# Altium footprint library Adafruit PyGamer.PCBLIB: 205 footprints (part 3 of 13)
Each footprint in its own frame and in the unit in brackets; x right, y up, seen from the top. Pads: shape width x height; smd on the part's side, far side on the other; paste and mask are expansions set on the pad; w line width, h text height; cw(c..) or ccw(c..) is an arc to the next point about the centre after c.
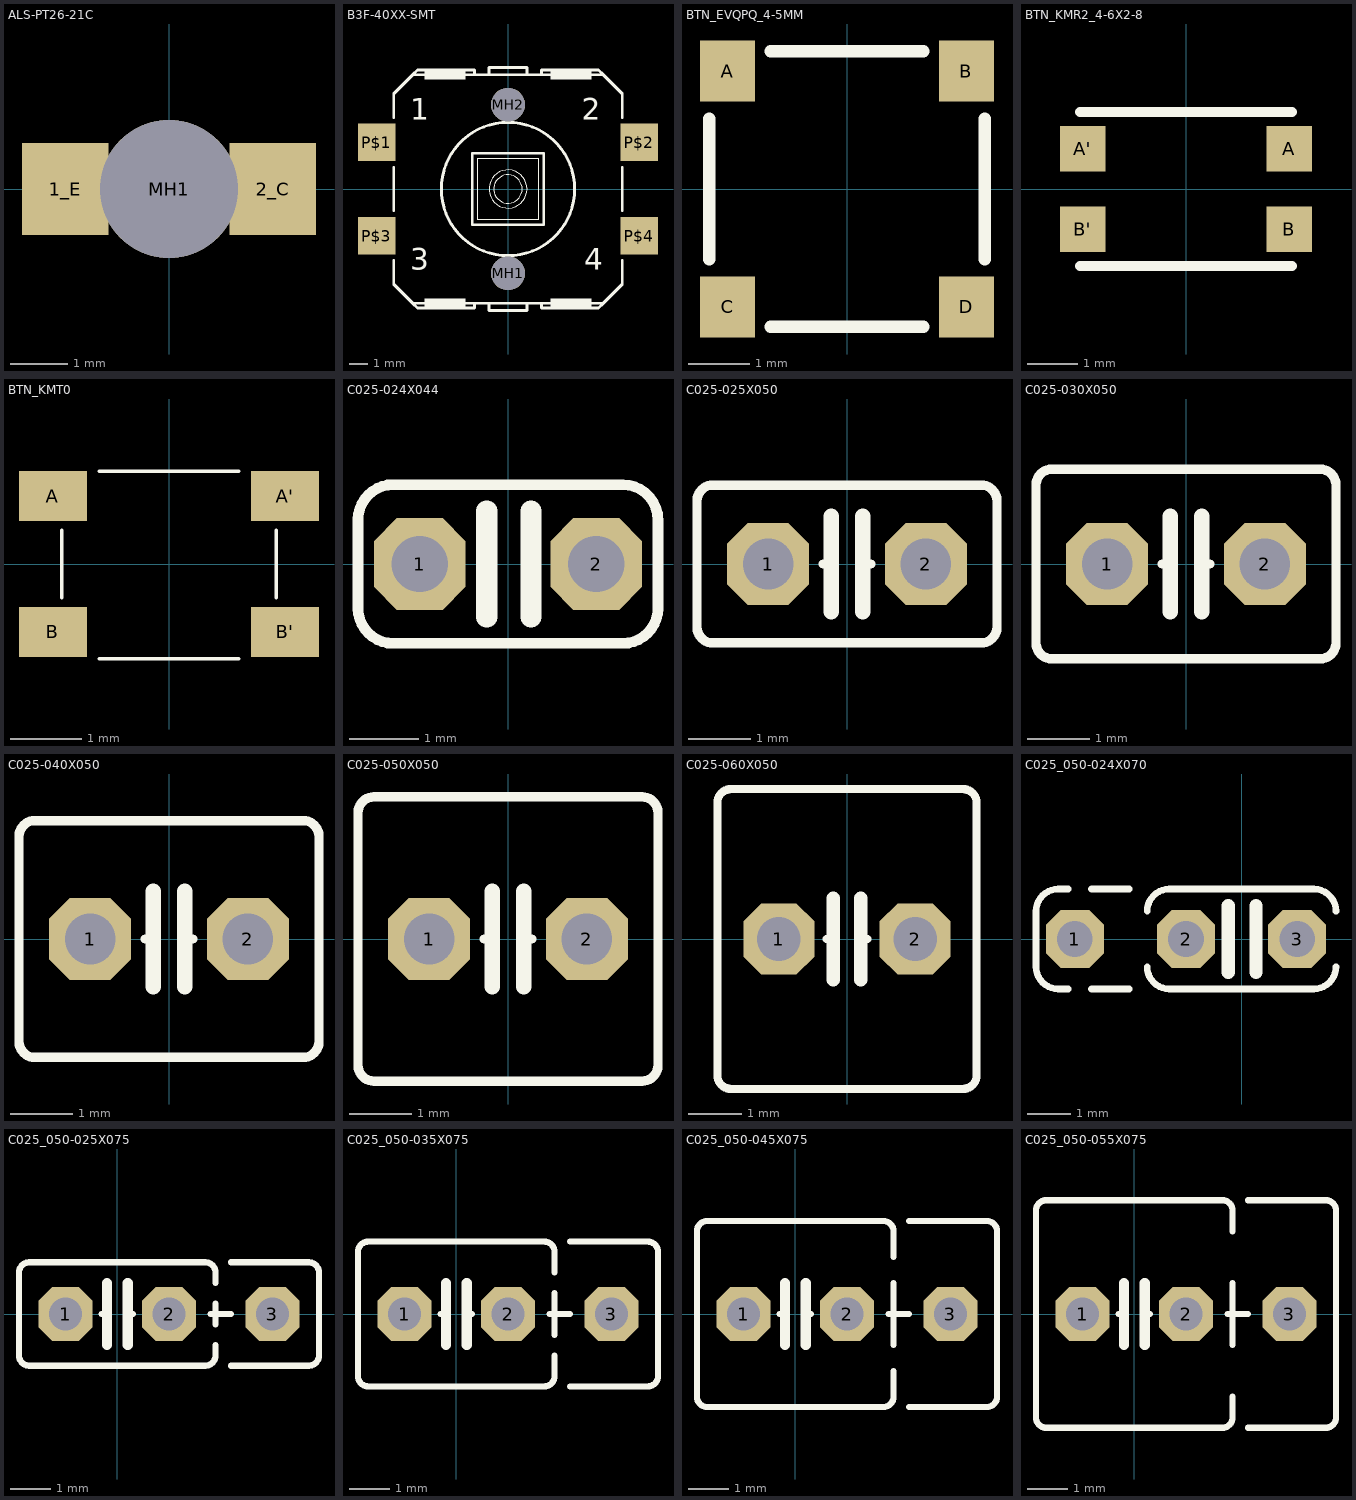
[diagram p2: the footprints below, top view; thin cyan lines are the x and y axes]

## ALS-PT26-21C [mil]
pads (3):
  rect 59.06x62.99 smd paste+0: 1_E(-70.87,0) 2_C(70.87,0)
  round 94.49 hole 94.49 unplated: MH1(0,0)
Bottom Overlay:
  text "E" at -90.55,-19.69 h62
  text "C" at 55.12,-15.75 h62

## B3F-40XX-SMT [mm]
pads (6):
  round 1.803 hole 1.803 unplated: MH1(0,-4.496) MH2(0,4.496)
  rect 2x2 smd: P$1(-7,2.5) P$2(7,2.5) P$3(-7,-2.5) P$4(7,-2.5)
Top Overlay:
  circle w0.152: c0,0 r3.556
  circle w0.051: c0,0 r1.016
  circle w0.051: c0,0 r0.762
  region: 2.286,5.842 2.286,6.35 4.445,6.35 4.445,5.842
  region: -4.445,5.842 -4.445,6.35 -2.286,6.35 -2.286,5.842
  region: 2.286,-6.35 2.286,-5.842 4.445,-5.842 4.445,-6.35
  region: -4.445,-6.35 -4.445,-5.842 -2.286,-5.842 -2.286,-6.35
  lines w0.051: -1.651,-1.651 1.651,-1.651 1.651,1.651 -1.651,1.651 -1.651,-1.651
  lines w0.152: -6.096,-3.81 -6.096,-5.08 -5.08,-6.096 ; -6.096,-1.143 -6.096,1.143 ; -6.096,3.81 -6.096,5.08 -5.08,6.096 ; 6.096,-3.81 6.096,-5.08 5.08,-6.096 ; 6.096,-1.143 6.096,1.143 ; 6.096,3.81 6.096,5.08 5.08,6.096 ; -5.08,-6.096 -1.778,-6.096 ; -5.08,-6.096 -4.826,-6.35 -1.778,-6.35 -1.778,-6.096 ; -5.08,6.096 -1.778,6.096 ; -5.08,6.096 -4.826,6.35 -1.778,6.35 -1.778,6.096 ; -1.778,-6.096 -1.016,-6.096 ; -1.778,6.096 -1.016,6.096 ; -1.016,-6.096 -1.016,-6.477 1.016,-6.477 1.016,-6.096 ; -1.016,-6.096 1.016,-6.096 ; -1.016,6.096 -1.016,6.477 1.016,6.477 1.016,6.096 ; -1.016,6.096 1.016,6.096 ; 1.016,-6.096 1.778,-6.096 ; 1.016,6.096 1.778,6.096 ; 1.778,-6.096 1.778,-6.35 4.826,-6.35 5.08,-6.096 ; 1.778,-6.096 5.08,-6.096 ; 1.778,6.096 5.08,6.096 ; 1.778,6.096 1.778,6.35 4.826,6.35 5.08,6.096 ; -1.905,-1.905 1.905,-1.905 1.905,1.905 -1.905,1.905 -1.905,-1.905
  text "1" at -5.207,3.302 h1.97
  text "2" at 3.937,3.302 h1.97
  text "3" at -5.207,-4.699 h1.97
  text "4" at 4.064,-4.699 h1.97
Bottom Overlay:
  circle w0.152: c-4.572,2.54 r0.127
  circle w0.152: c-4.572,-2.54 r0.127
  region: 6.096,-2.921 6.096,-2.032 6.604,-2.032 6.604,-2.921
  region: 6.096,2.032 6.096,2.921 6.604,2.921 6.604,2.032
  region: -6.604,2.032 -6.604,2.921 -6.096,2.921 -6.096,2.032
  region: -6.604,-2.921 -6.604,-2.032 -6.096,-2.032 -6.096,-2.921
  lines w0.152: -6.096,-3.81 -6.096,-1.143 ; -6.096,1.143 -6.096,3.81 ; -5.08,-2.54 -4.572,-2.54 ; -5.08,-0.762 -4.572,0.762 -4.572,2.54 ; -5.08,2.54 -4.572,2.54 ; -4.572,-0.762 -4.572,-2.54 ; -2.921,-2.54 -4.572,-2.54 ; -2.921,2.54 -4.572,2.54 ; 2.921,-2.54 5.08,-2.54 ; 2.921,2.54 5.08,2.54 ; 6.096,-3.81 6.096,-1.143 ; 6.096,1.143 6.096,3.81

## BTN_EVQPQ_4-5MM [mm]
pads (4):
  rect 0.9x1 smd: A(-1.95,1.925) B(1.95,1.925) C(-1.95,-1.925) D(1.95,-1.925)
Top Overlay:
  lines w0.203: -2.25,-1.15 -2.25,1.15 ; -1.25,-2.25 1.25,-2.25 ; -1.25,2.25 1.25,2.25 ; 2.25,-1.15 2.25,1.15
Bottom Overlay:
  circle w0.203: c0,0 r2.15
  lines w0.127: -2.25,-2.25 2.25,-2.25 2.25,2.25 -2.25,2.25 -2.25,-2.25

## BTN_KMR2_4-6X2-8 [mil]
pads (4):
  rect 35.43x35.43 smd: A(80.71,31.5) A'(-80.71,31.5) B(80.71,-31.5) B'(-80.71,-31.5)
Top Overlay:
  lines w8: -82.68,-60.06 82.68,-60.06 ; -82.68,60.06 82.68,60.06
Bottom Overlay:
  lines w5: -15.75,-15.75 0,-15.75 ; -15.75,15.75 0,15.75 ; 0,-11.81 0,-15.75 ; 11.81,-3.94 0,7.87 0,15.75 ; 15.75,-15.75 0,-15.75 ; 15.75,15.75 0,15.75
  lines w8: -82.68,-55.12 82.68,-55.12 82.68,55.12 -82.68,55.12 -82.68,-55.12 ; -41.34,-31.5 cw(c34.71,0) -41.34,31.5 41.34,31.5 cw(c-34.71,0) 41.34,-31.5 -41.34,-31.5

## BTN_KMT0 [mil]
pads (4):
  rect 37.4x27.56 smd: A(-63.98,37.4) A'(63.98,37.4) B(-63.98,-37.4) B'(63.98,-37.4)
Top Overlay:
  lines w1.97: -59.06,-18.7 -59.06,18.7 ; -38.39,-52.17 38.39,-52.17 ; -38.39,51.18 38.39,51.18 ; 59.06,-18.7 59.06,18.7
Bottom Overlay:
  circle w1.97: c0,0 r15.41
  circle w1.97: c0,0 r41.49
  lines w1.97: -54.13,-48.23 ccw(c-50.2,-48.23) -50.2,-52.17 -44.29,-52.17 ; -54.13,47.24 cw(c-50.2,47.24) -50.2,51.18 -45.28,51.18 ; -49.21,-48.23 -53.15,-48.23 ; -63.98,-48.23 -53.15,-48.23 ; -63.98,-48.23 -67.91,-48.23 -67.91,-28.54 -63.98,-28.54 ; -63.98,-48.23 -63.98,-28.54 ; -63.98,-28.54 -59.06,-28.54 ; -62.99,27.56 -59.06,27.56 ; -62.99,27.56 -66.93,27.56 -66.93,47.24 -62.99,47.24 ; -62.99,27.56 -62.99,47.24 ; -62.99,47.24 -53.15,47.24 -53.15,27.56 ; -59.06,-28.54 -53.15,-28.54 ; -59.06,-28.54 -59.06,-19.69 ; -59.06,-19.69 -59.06,-9.84 ; -59.06,-19.69 ccw(c-56.1,-19.68) -56.1,-22.64 ; -59.06,-9.84 -59.06,5.91 ; -59.06,-9.84 -61.02,-9.84 -61.02,5.91 -59.06,5.91 ; -59.06,5.91 -59.06,18.7 ; -59.06,18.7 cw(c-56.1,18.7) -56.1,21.65 ; -59.06,18.7 -59.06,27.56 ; -59.06,27.56 -53.15,27.56 ; -56.1,-22.64 -55.12,-22.64 cw(c-55.12,-28.55) -49.21,-28.54 -49.21,-47.24 ccw(c-44.28,-47.24) -44.29,-52.17 ; -56.1,-22.64 cw(c-56.1,-25.59) -53.15,-25.59 -53.15,-28.54 ; -56.1,21.65 -55.12,21.65 ccw(c-55.12,27.56) -49.21,27.56 -49.21,47.24 cw(c-45.27,47.24) -45.28,51.18 ; -56.1,21.65 ccw(c-56.1,24.61) -53.15,24.61 -53.15,27.56 ; -53.15,-48.23 -53.15,-28.54 ; -45.28,51.18 45.28,51.18 ; -44.29,-52.17 44.29,-52.17 ; 44.29,-52.17 ccw(c44.28,-47.24) 49.21,-47.24 49.21,-27.56 cw(c54.13,-27.56) 54.13,-22.64 56.1,-22.64 ; 44.29,-52.17 50.2,-52.17 ccw(c50.2,-48.23) 54.13,-48.23 ; 45.28,51.18 cw(c45.27,47.24) 49.21,47.24 49.21,25.59 ccw(c53.15,25.59) 53.15,21.65 55.12,21.65 ; 45.28,51.18 49.21,51.18 cw(c49.21,46.26) 54.13,46.26 ; 52.17,-28.54 52.17,-26.57 cw(c56.1,-26.57) 56.1,-22.64 ; 52.17,-28.54 59.06,-28.54 ; 52.17,-28.54 52.17,-48.23 54.13,-48.23 ; 52.17,26.57 52.17,46.26 54.13,46.26 ; 52.17,26.57 52.17,24.61 ccw(c55.12,24.61) 55.12,21.65 ; 52.17,26.57 59.06,26.57 ; 54.13,-48.23 62.99,-48.23 ; 54.13,46.26 63.98,46.26 ; 55.12,21.65 56.1,21.65 ; 56.1,-22.64 ccw(c56.1,-19.68) 59.06,-19.69 ; 56.1,21.65 cw(c56.1,18.7) 59.06,18.7 ; 56.1,21.65 cw(c56.1,18.7) 59.06,18.7 ; 59.06,-28.54 62.99,-28.54 ; 59.06,-28.54 59.06,-19.69 ; 59.06,-19.69 59.06,-10.83 ; 59.06,-10.83 59.06,4.92 ; 59.06,-10.83 61.02,-10.83 61.02,4.92 59.06,4.92 ; 59.06,4.92 59.06,18.7 ; 59.06,18.7 59.06,26.57 ; 59.06,26.57 63.98,26.57 ; 62.99,-48.23 66.93,-48.23 66.93,-28.54 62.99,-28.54 ; 62.99,-48.23 62.99,-28.54 ; 63.98,26.57 67.91,26.57 67.91,46.26 63.98,46.26 ; 63.98,26.57 63.98,46.26 ; -57.09,-18.7 ccw(c-54.13,-18.7) -54.13,-21.65 -53.15,-21.65 cw(c-53.15,-28.54) -46.26,-28.54 -46.26,-43.31 ccw(c-40.35,-43.3) -40.35,-49.21 41.34,-49.21 ccw(c41.34,-44.29) 46.26,-44.29 46.26,-27.56 cw(c51.18,-27.56) 51.18,-22.64 52.17,-22.64 ccw(c52.17,-17.72) 57.09,-17.72 57.09,16.73 ccw(c53.15,16.73) 53.15,20.67 52.17,20.67 cw(c52.16,26.57) 46.26,26.57 46.26,43.31 ccw(c41.34,43.31) 41.34,48.23 -41.34,48.23 ccw(c-41.34,43.31) -46.26,43.31 -46.26,26.57 cw(c-52.16,26.57) -52.17,20.67 -53.15,20.67 ccw(c-53.15,16.73) -57.09,16.73 -57.09,-18.7

## C025-024X044 [mil]
pads (2):
  oct 52x52 / inner round 48.04 / far side oct 52x52 hole 32: 1(-50,0) 2(50,0)
Top Overlay:
  lines w6: -85,-25 -85,25 cw(c-65,25) -65,45 65,45 cw(c65,25) 85,25 85,-25 cw(c65,-25) 65,-45 -65,-45 cw(c-65,-25) -85,-25
  lines w12: -12,-30 -12,30 ; 13,-30 13,30
Bottom Overlay:
  lines w6: -50,0 -12,0 ; 13,0 50,0

## C025-025X050 [mil]
pads (2):
  oct 52x52 / inner round 48.04 / far side oct 52x52 hole 32: 1(-50,0) 2(50,0)
Top Overlay:
  lines w6: -15,0 -10,0 ; 10,0 15,0 ; -95,-40 -95,40 cw(c-85,40) -85,50 85,50 cw(c85,40) 95,40 95,-40 cw(c85,-40) 85,-50 -85,-50 cw(c-85,-40) -95,-40
  lines w10: -10,-30 -10,0 -10,30 ; 10,-30 10,0 10,30
Bottom Overlay:
  lines w6: -30,0 -15,0 ; 15,0 30,0

## C025-030X050 [mil]
pads (2):
  oct 52x52 / inner round 48.04 / far side oct 52x52 hole 32: 1(-50,0) 2(50,0)
Top Overlay:
  lines w6: -15,0 -10,0 ; 10,0 15,0 ; -95,-50 -95,50 cw(c-85,50) -85,60 85,60 cw(c85,50) 95,50 95,-50 cw(c85,-50) 85,-60 -85,-60 cw(c-85,-50) -95,-50
  lines w10: -10,-30 -10,0 -10,30 ; 10,-30 10,0 10,30
Bottom Overlay:
  lines w6: -30,0 -15,0 ; 15,0 30,0

## C025-040X050 [mil]
pads (2):
  oct 52x52 / inner round 48.04 / far side oct 52x52 hole 32: 1(-50,0) 2(50,0)
Top Overlay:
  lines w6: -15,0 -10,0 ; 10,0 15,0 ; -95,-65 -95,65 cw(c-85,65) -85,75 85,75 cw(c85,65) 95,65 95,-65 cw(c85,-65) 85,-75 -85,-75 cw(c-85,-65) -95,-65
  lines w10: -10,-30 -10,0 -10,30 ; 10,-30 10,0 10,30
Bottom Overlay:
  lines w6: -30,0 -15,0 ; 15,0 30,0

## C025-050X050 [mil]
pads (2):
  oct 52x52 / inner round 48.04 / far side oct 52x52 hole 32: 1(-50,0) 2(50,0)
Top Overlay:
  lines w6: -15,0 -10,0 ; 10,0 15,0 ; -95,-80 -95,80 cw(c-85,80) -85,90 85,90 cw(c85,80) 95,80 95,-80 cw(c85,-80) 85,-90 -85,-90 cw(c-85,-80) -95,-80
  lines w10: -10,-30 -10,0 -10,30 ; 10,-30 10,0 10,30
Bottom Overlay:
  lines w6: -30,0 -15,0 ; 15,0 30,0

## C025-060X050 [mil]
pads (2):
  oct 52x52 / inner round 48.04 / far side oct 52x52 hole 32: 1(-50,0) 2(50,0)
Top Overlay:
  lines w6: -15,0 -10,0 ; 10,0 15,0 ; -95,-100 -95,100 cw(c-85,100) -85,110 85,110 cw(c85,100) 95,100 95,-100 cw(c85,-100) 85,-110 -85,-110 cw(c-85,-100) -95,-100
  lines w10: -10,-30 -10,0 -10,30 ; 10,-30 10,0 10,30
Bottom Overlay:
  lines w6: -30,0 -15,0 ; 15,0 30,0

## C025_050-024X070 [mil]
pads (3):
  oct 52x52 / inner round 48.04 / far side oct 52x52 hole 32: 1(-150,0) 2(-50,0) 3(50,0)
Top Overlay:
  lines w6: -156,-45 -165,-45 cw(c-165,-25) -185,-25 -185,25 cw(c-165,25) -165,45 -156,45 ; -135,-45 -101,-45 ; -135,45 -101,45 ; -85,-25 ccw(c-65,-25) -65,-45 65,-45 ccw(c65,-25) 85,-25 ; -85,25 cw(c-65,25) -65,45 65,45 cw(c65,25) 85,25
  lines w12: -12,-30 -12,30 ; 13,-30 13,30
Bottom Overlay:
  lines w6: -85,-25 -85,25 ; -50,0 -12,0 ; 13,0 50,0 ; 85,-25 85,25

## C025_050-025X075 [mil]
pads (3):
  oct 52x52 / inner round 48.04 / far side oct 52x52 hole 32: 1(-50,0) 2(50,0) 3(150,0)
Top Overlay:
  lines w6: -15,0 -10,0 ; 10,0 15,0 ; 90,0 110,0 ; 95,-30 95,-40 cw(c85,-40) 85,-50 -85,-50 cw(c-85,-40) -95,-40 -95,40 cw(c-85,40) -85,50 85,50 cw(c85,40) 95,40 95,30 ; 95,-10 95,10 ; 110,-50 185,-50 ccw(c185,-40) 195,-40 195,40 ccw(c185,40) 185,50 110,50
  lines w10: -10,-30 -10,0 -10,30 ; 10,-30 10,0 10,30
Bottom Overlay:
  lines w6: -30,0 -15,0 ; 15,0 30,0 ; 70,0 90,0 ; 110,0 130,0

## C025_050-035X075 [mil]
pads (3):
  oct 52x52 / inner round 48.04 / far side oct 52x52 hole 32: 1(-50,0) 2(50,0) 3(150,0)
Top Overlay:
  lines w6: -15,0 -10,0 ; 10,0 15,0 ; 90,0 110,0 ; 95,-40 95,-60 cw(c85,-60) 85,-70 -85,-70 cw(c-85,-60) -95,-60 -95,60 cw(c-85,60) -85,70 85,70 cw(c85,60) 95,60 95,40 ; 95,-20 95,20 ; 110,-70 185,-70 ccw(c185,-60) 195,-60 195,60 ccw(c185,60) 185,70 110,70
  lines w10: -10,-30 -10,0 -10,30 ; 10,-30 10,0 10,30
Bottom Overlay:
  lines w6: -30,0 -15,0 ; 15,0 30,0 ; 70,0 90,0 ; 110,0 130,0

## C025_050-045X075 [mil]
pads (3):
  oct 52x52 / inner round 48.04 / far side oct 52x52 hole 32: 1(-50,0) 2(50,0) 3(150,0)
Top Overlay:
  lines w6: -15,0 -10,0 ; 10,0 15,0 ; 90,0 110,0 ; 95,-55 95,-80 cw(c85,-80) 85,-90 -85,-90 cw(c-85,-80) -95,-80 -95,80 cw(c-85,80) -85,90 85,90 cw(c85,80) 95,80 95,55 ; 95,-30 95,30 ; 110,-90 185,-90 ccw(c185,-80) 195,-80 195,80 ccw(c185,80) 185,90 110,90
  lines w10: -10,-30 -10,0 -10,30 ; 10,-30 10,0 10,30
Bottom Overlay:
  lines w6: -30,0 -15,0 ; 15,0 30,0 ; 70,0 90,0 ; 110,0 130,0

## C025_050-055X075 [mil]
pads (3):
  oct 52x52 / inner round 48.04 / far side oct 52x52 hole 32: 1(-50,0) 2(50,0) 3(150,0)
Top Overlay:
  lines w6: -15,0 -10,0 ; 10,0 15,0 ; 90,0 110,0 ; 95,-80 95,-100 cw(c85,-100) 85,-110 -85,-110 cw(c-85,-100) -95,-100 -95,100 cw(c-85,100) -85,110 85,110 cw(c85,100) 95,100 95,80 ; 95,-30 95,30 ; 110,-110 185,-110 ccw(c185,-100) 195,-100 195,100 ccw(c185,100) 185,110 110,110
  lines w10: -10,-30 -10,0 -10,30 ; 10,-30 10,0 10,30
Bottom Overlay:
  lines w6: -30,0 -15,0 ; 15,0 30,0 ; 70,0 90,0 ; 110,0 130,0